# EAGLE library part 749070011 (library WE-SPE)
WE-SPE Single Pair Ethernet Characteristics Test voltage of 2250 V(DC) / 1 min. Available in different footprints Operating temperature: -40 °C up to +125 °C Applications Isolation of industrial interfaces Single Pair Ethernet (SPE) Single Pair Ethernet with Power over Data Line (SPE + PoDL) <https://www.we-online.com/components/media/o849247v209%20Model-UtSPE-749070010.jpg> Details see: www.we-online.com/components/products/WE-SPE <www.we-online.com/catalog/WE-SPE/?utm_source=eagle_model&utm_medium=description_link&utm_campaign=eisos_eagle> Created by Ella 2025-09-03 2025 (C) Würth Elektronik
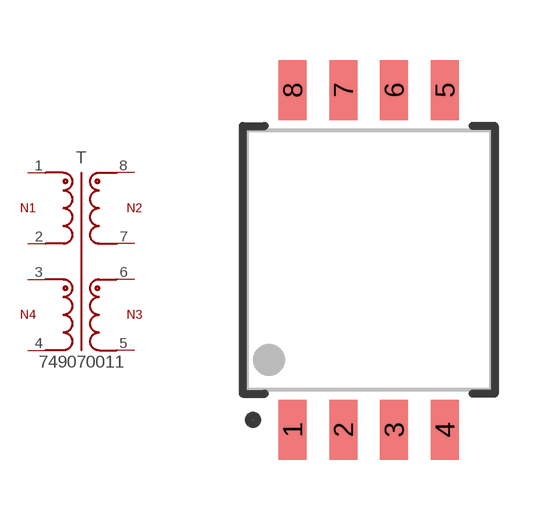
[diagram p0: symbol with the pads of 749070011; footprint 749070011]

Designator prefix T

## 749070011 (CWW: 18pF; DATASHEET-URL: https://www.we-online.com/redexpert/spec/749070011?ae; L: 2.2mH; MOUNT: SMT; PART-NUMBER: 749070011; PINS: 8pcs; VT: 2250VDC)  [749070011]
1  1  pas
2  2  pas
3  3  pas
4  4  pas
5  5  pas
6  6  pas
7  7  pas
8  8  pas

## Footprint 749070011 (pad centres in mm)
WE-SPE Single Pair Ethernet
smd 0.7 x 1.5: 1 -1.905,-4.25; 2 -0.635,-4.25; 3 0.635,-4.25; 4 1.905,-4.25; 5 1.905,4.25; 6 0.635,4.25; 7 -0.635,4.25; 8 -1.905,4.25